# Altium footprint library DA14580.PcbLib: 18 footprints (part 2 of 2)
Each footprint in its own frame and in the unit in brackets; x right, y up, seen from the top. Pads: shape width x height; smd on the part's side, far side on the other; paste and mask are expansions set on the pad; w line width, h text height; cw(c..) or ccw(c..) is an arc to the next point about the centre after c.
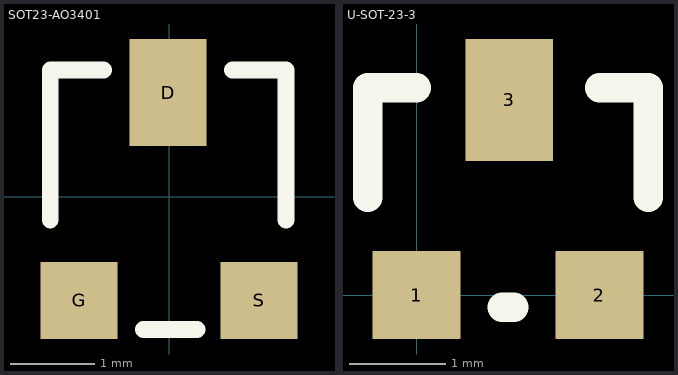
[diagram p1: the footprints below, top view; thin cyan lines are the x and y axes]

## SOT23-AO3401 [mil]
pads (3):
  rect 36x50 smd: D(-0.44,48.5)
  rect 36x36 smd: G(-42,-48.5) S(42,-48.5)
Top Overlay:
  lines w7.87: -55.44,-11 -55.44,59 -30.44,59 ; -12,-62.11 13,-62.11 ; 29.56,59 54.56,59 54.56,-11

## U-SOT-23-3 [mil]
pads (3):
  rect 36x36 smd: 1(0,0) 2(75,0)
  rect 36x50 smd: 3(38,80)
Top Overlay:
  lines w12: -20,40 -20,85 0,85 ; 35,-5 40,-5 ; 75,85 95,85 95,40
3D body: height 50, standoff 3, extent -20.5,12.5 94.5,67.5
3D body: height 10, standoff 0, extent 20.5,65 54.5,90
3D body: height 10, standoff 0, extent -17.5,-10 16.5,15
3D body: height 10, standoff 0, extent 57.5,-10 91.5,15